# Altium footprint library XFMR_ZMPT101B.PcbLib: 1 footprints
Each footprint in its own frame and in the unit in brackets; x right, y up, seen from the top. Pads: shape width x height; smd on the part's side, far side on the other; paste and mask are expansions set on the pad; w line width, h text height; cw(c..) or ccw(c..) is an arc to the next point about the centre after c.
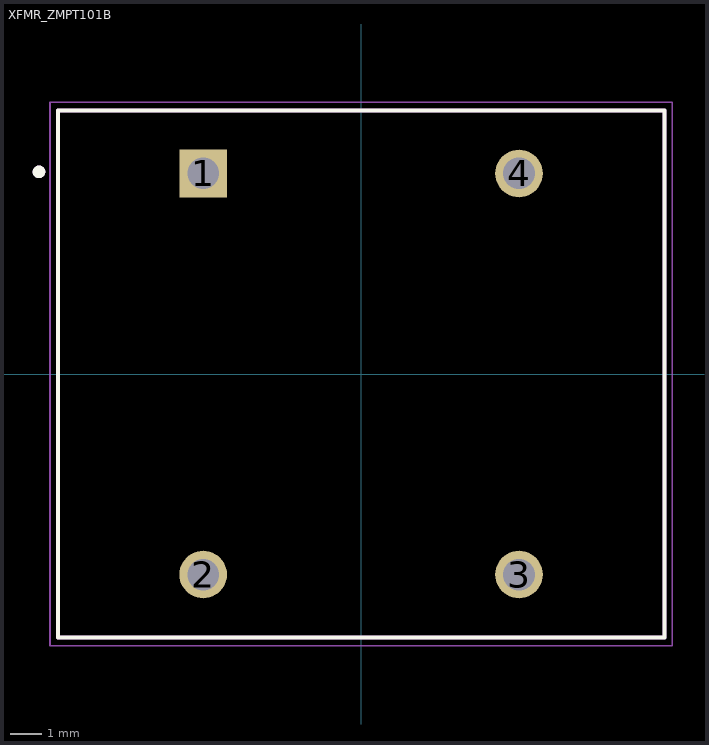
[diagram p0: the footprint, top view; thin cyan lines are the x and y axes]

## XFMR_ZMPT101B [mm]
height 18.8
pads (4):
  rect 1.508x1.508 / inner round 1.508 / far side rect 1.508x1.508 hole 1: 1(-5,6.35)
  round 1.508 hole 1: 2(-5,-6.35) 3(5,-6.35) 4(5,6.35)
Top Overlay:
  circle w0.2: c-10.2,6.4 r0.1
  lines w0.127: -9.6,-8.35 -9.6,8.35 9.6,8.35 9.6,-8.35 -9.6,-8.35
Mechanical 13:
  circle w0.2: c-10.2,6.4 r0.1
  lines w0.127: -9.6,-8.35 9.6,-8.35 9.6,8.35 -9.6,8.35 -9.6,-8.35
Mechanical 15:
  lines w0.05: -9.85,-8.6 9.85,-8.6 9.85,8.6 -9.85,8.6 -9.85,-8.6
3D body "step_temp.STEP": height 18.8, standoff -3.5, extent -9.6,-8.35 9.6,8.35